# EAGLE library part HD64180 (library 68komputer)
HD64180 – Z80 Based Microprocessor Datasheet <http://www.bitsavers.org/components/hitachi/64180/HD64180Z_Hardware_Manual_4th_Ed.pdf>
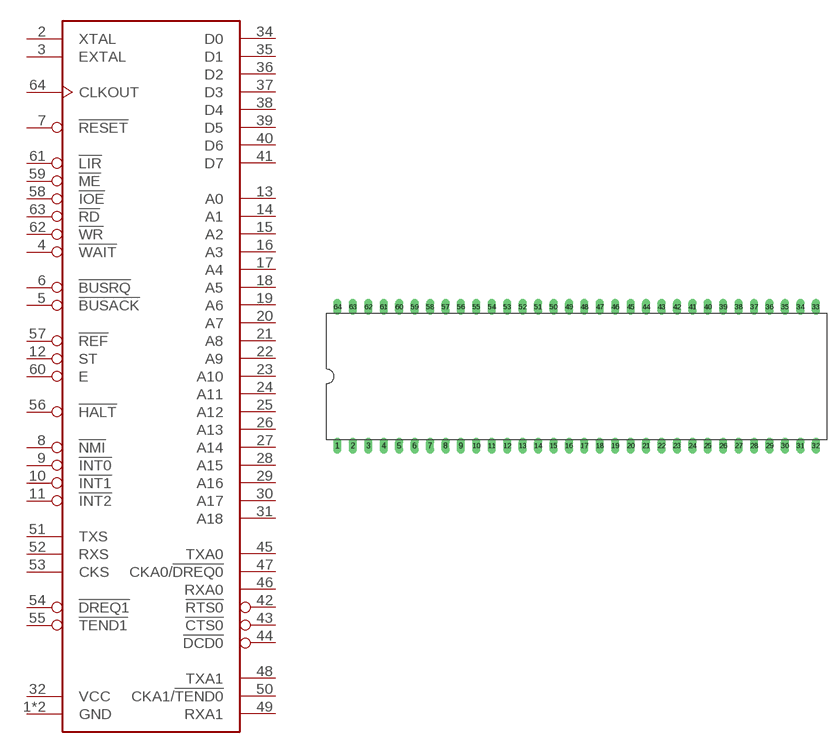
[diagram p25: symbol with the pads of DIL64; footprint DIL64]

Designator prefix IC

## HD64180DIP64 (VALUE: HD64180)  [DIL64]
1  GND  pwr
2  XTAL
3  EXTAL
4  !WAIT!  in
5  !BUSACK!  out
6  !BUSRQ!  in
7  !RESET!  in
8  !NMI!  in
9  !INT0!  in
10  !INT1!  in
11  !INT2!  in
12  ST  out
13  A0  out
14  A1  out
15  A2  out
16  A3  out
17  A4  out
18  A5  out
19  A6  out
20  A7  out
21  A8  out
22  A9  out
23  A10  out
24  A11  out
25  A12  out
26  A13  out
27  A14  out
28  A15  out
29  A16  out
30  A17  out
31  A18  out
32  VCC  pwr
33  GND  pwr
34  D0
35  D1
36  D2
37  D3
38  D4
39  D5
40  D6
41  D7
42  !RTS0!  out
43  !CTS0!  in
44  !DCD0!  in
45  TXA0  out
46  RXA0  in
47  CKA0/!DREQ0!
48  TXA1  out
49  RXA1  in
50  CKA1/!TEND0!
51  TXS  out
52  RXS  in
53  CKS
54  !DREQ1!  in
55  !TEND1!  out
56  !HALT!  out
57  !REF!  out
58  !IOE!  out
59  !ME!  out
60  E  out
61  !LIR!  out
62  !WR!  out
63  !RD!  out
64  CLKOUT  out

## Footprint DIL64 (pad centres in mm)
Dual In Line Package
drill 0.813 long: 1 -39.37,-11.43; 2 -36.83,-11.43; 3 -34.29,-11.43; 4 -31.75,-11.43; 5 -29.21,-11.43; 6 -26.67,-11.43; 7 -24.13,-11.43; 8 -21.59,-11.43; 9 -19.05,-11.43; 10 -16.51,-11.43; 11 -13.97,-11.43; 12 -11.43,-11.43; 13 -8.89,-11.43; 14 -6.35,-11.43; 15 -3.81,-11.43; 16 -1.27,-11.43; 17 1.27,-11.43; 18 3.81,-11.43; 19 6.35,-11.43; 20 8.89,-11.43; 21 11.43,-11.43; 22 13.97,-11.43; 23 16.51,-11.43; 24 19.05,-11.43; 25 21.59,-11.43; 26 24.13,-11.43; 27 26.67,-11.43; 28 29.21,-11.43; 29 31.75,-11.43; 30 34.29,-11.43; 31 36.83,-11.43; 32 39.37,-11.43; 33 39.37,11.43; 34 36.83,11.43; 35 34.29,11.43; 36 31.75,11.43; 37 29.21,11.43; 38 26.67,11.43; 39 24.13,11.43; 40 21.59,11.43; 41 19.05,11.43; 42 16.51,11.43; 43 13.97,11.43; 44 11.43,11.43; 45 8.89,11.43; 46 6.35,11.43; 47 3.81,11.43; 48 1.27,11.43; 49 -1.27,11.43; 50 -3.81,11.43; 51 -6.35,11.43; 52 -8.89,11.43; 53 -11.43,11.43; 54 -13.97,11.43; 55 -16.51,11.43; 56 -19.05,11.43; 57 -21.59,11.43; 58 -24.13,11.43; 59 -26.67,11.43; 60 -29.21,11.43; 61 -31.75,11.43; 62 -34.29,11.43; 63 -36.83,11.43; 64 -39.37,11.43